# EAGLE library part CONN_03X2 (library digital_dash)
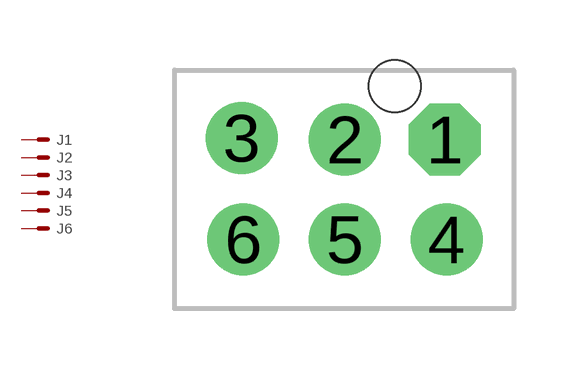
[diagram p15: symbol with the pads of MOLEX-1053101106; footprint MOLEX-1053101106]

Designator prefix J; gates 1=M 2=M 3=M 4=M 5=M 6=M

## CONN_03X2  [MOLEX-1053101106]
1  1:S  pas
2  2:S  pas
3  3:S  pas
4  4:S  pas
5  5:S  pas
6  6:S  pas

## Footprint MOLEX-1053101106 (pad centres in mm)
drill 1.2 pad 1.7 octagon: 1 1.25,1.25
drill 1.2 pad 1.7: 2 -1.25,1.25; 3 -3.83,1.29; 4 1.29,-1.25; 5 -1.25,-1.25; 6 -3.79,-1.25
hole 1.3 at 0,2.59